# EAGLE library part LM2576 (library GPIOexpander)
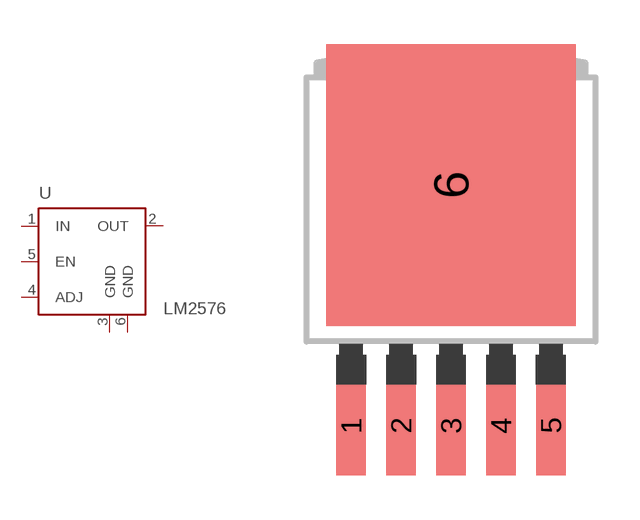
[diagram p3: symbol with the pads of D2PAK; footprint D2PAK]

Designator prefix -

## LM2576  [D2PAK]
1  IN  in
2  OUT  out
3  GND  pwr
4  ADJ  pas
5  EN  in
6  GND  pwr

## Footprint D2PAK (pad centres in mm)
Q5-DD
smd 1 x 3.4: 1 -3.4,-7.875; 2 -1.7,-7.875; 3 0,-7.875; 4 1.7,-7.875; 5 3.4,-7.875
smd 8.5 x 9.6: 6 0,0.325